# Altium footprint library KITRONIX-CONN.PcbLib: 1 footprints
Each footprint in its own frame and in the unit in brackets; x right, y up, seen from the top. Pads: shape width x height; smd on the part's side, far side on the other; paste and mask are expansions set on the pad; w line width, h text height; cw(c..) or ccw(c..) is an arc to the next point about the centre after c.
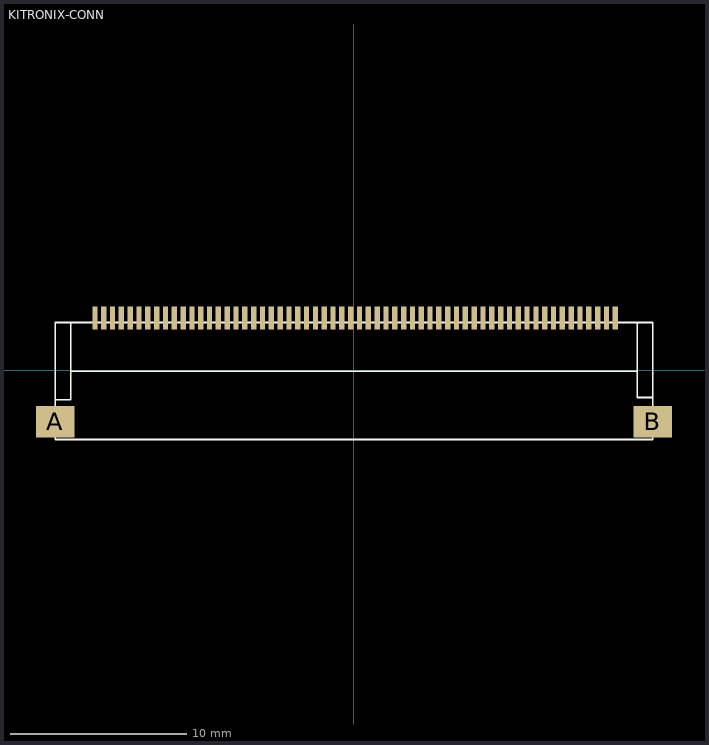
[diagram p0: the footprint, top view; thin cyan lines are the x and y axes]

## KITRONIX-CONN [mm]
pads (62):
  rect 0.3x1.3 smd: 1(-14.687,2.937) 2(-14.187,2.937) 3(-13.687,2.937) 4(-13.187,2.937) 5(-12.687,2.937) 6(-12.187,2.937) 7(-11.687,2.937) 8(-11.188,2.937) 9(-10.687,2.937) 10(-10.187,2.937) 11(-9.687,2.937) 12(-9.187,2.937) 13(-8.687,2.937) 14(-8.187,2.937) 15(-7.687,2.937) 16(-7.187,2.937) 17(-6.687,2.937) 18(-6.187,2.937) 19(-5.687,2.937) 20(-5.187,2.937) 21(-4.687,2.937) 22(-4.187,2.937) 23(-3.687,2.937) 24(-3.187,2.937) 25(-2.687,2.937) 26(-2.187,2.937) 27(-1.687,2.937) 28(-1.187,2.937) 29(-0.687,2.937) 30(-0.187,2.937) 31(0.313,2.937) 32(0.813,2.937) 33(1.313,2.937) 34(1.813,2.937) 35(2.313,2.937) 36(2.813,2.937) 37(3.313,2.937) 38(3.813,2.937) 39(4.313,2.937) 40(4.813,2.937) 41(5.313,2.937) 42(5.813,2.937) 43(6.313,2.937) 44(6.813,2.937) 45(7.313,2.937) 46(7.813,2.937) 47(8.313,2.937) 48(8.813,2.937) 49(9.313,2.937) 50(9.813,2.937) 51(10.313,2.937) 52(10.813,2.937) 53(11.313,2.937) 54(11.813,2.937) 55(12.313,2.937) 56(12.813,2.937) 57(13.313,2.937) 58(13.813,2.937) 59(14.313,2.937) 60(14.813,2.937)
  rect 2.2x1.8 smd: A(-16.937,-2.937) B(16.938,-2.937)
Top Overlay:
  lines w0.1: -16.937,-1.687 -16.062,-1.687 -16.062,2.688 ; -16.062,-0.062 16.063,-0.062 ; 16.063,2.688 16.063,-1.563 16.938,-1.563 ; -16.937,-3.938 -16.937,2.688 16.938,2.688 16.938,-3.938 -16.937,-3.938